# EAGLE library part PIC16F883 (library pic16f88x)
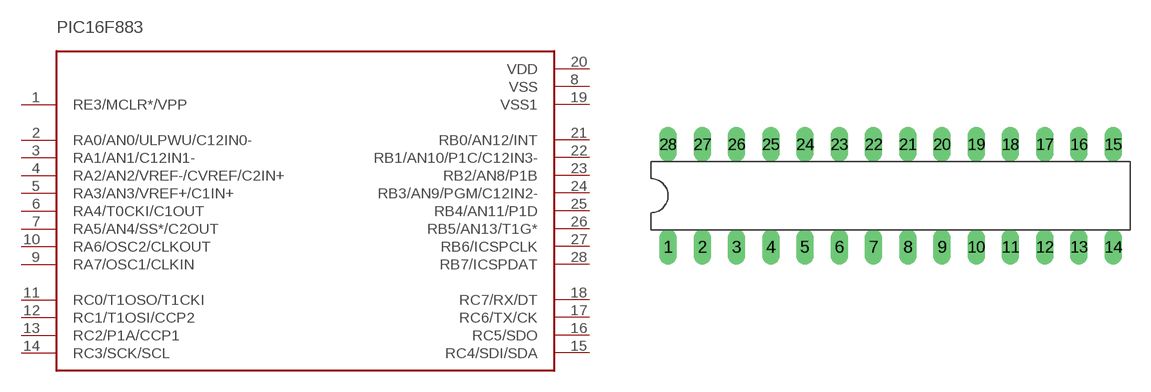
[diagram p1: symbol with the pads of 16F886; footprint 16F886]

Designator prefix -

## PIC16F883  [16F886]
1  RE3/MCLR*/VPP
2  RA0/AN0/ULPWU/C12IN0-
3  RA1/AN1/C12IN1-
4  RA2/AN2/VREF-/CVREF/C2IN+
5  RA3/AN3/VREF+/C1IN+
6  RA4/T0CKI/C1OUT
7  RA5/AN4/SS*/C2OUT
8  VSS
9  RA7/OSC1/CLKIN
10  RA6/OSC2/CLKOUT
11  RC0/T1OSO/T1CKI
12  RC1/T1OSI/CCP2
13  RC2/P1A/CCP1
14  RC3/SCK/SCL
15  RC4/SDI/SDA
16  RC5/SDO
17  RC6/TX/CK
18  RC7/RX/DT
19  VSS1
20  VDD
21  RB0/AN12/INT
22  RB1/AN10/P1C/C12IN3-
23  RB2/AN8/P1B
24  RB3/AN9/PGM/C12IN2-
25  RB4/AN11/P1D
26  RB5/AN13/T1G*
27  RB6/ICSPCLK
28  RB7/ICSPDAT

## Footprint 16F886 (pad centres in mm)
drill 0.8 long: 1 -19.05,0; 2 -16.51,0; 3 -13.97,0; 4 -11.43,0; 5 -8.89,0; 6 -6.35,0; 7 -3.81,0; 8 -1.27,0; 9 1.27,0; 10 3.81,0; 11 6.35,0; 12 8.89,0; 13 11.43,0; 14 13.97,0; 15 13.97,7.62; 16 11.43,7.62; 17 8.89,7.62; 18 6.35,7.62; 19 3.81,7.62; 20 1.27,7.62; 21 -1.27,7.62; 22 -3.81,7.62; 23 -6.35,7.62; 24 -8.89,7.62; 25 -11.43,7.62; 26 -13.97,7.62; 27 -16.51,7.62; 28 -19.05,7.62